# EAGLE library part 565RU7 (library _mtvl_ic.soviet_check_me)
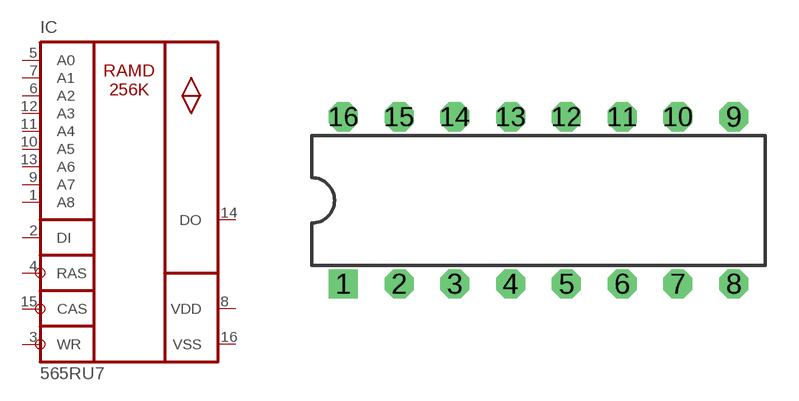
[diagram p0: symbol with the pads of 238.16.1; footprint 238.16.1]

Designator prefix IC

## 565RU7  [238.16.1]
1  A8
2  DI
3  WR
4  RAS
5  A0
6  A2
7  A1
8  VDD
9  A7
10  A5
11  A4
12  A3
13  A6
14  DO
15  CAS
16  VSS

## Footprint 238.16.1 (pad centres in mm)
Dual In Line Package
drill 0.8 square: 1 -8.75,-3.75
drill 0.8 octagon: 2 -6.25,-3.75; 3 -3.75,-3.75; 4 -1.25,-3.75; 5 1.25,-3.75; 6 3.75,-3.75; 7 6.25,-3.75; 8 8.75,-3.75; 9 8.75,3.75; 10 6.25,3.75; 11 3.75,3.75; 12 1.25,3.75; 13 -1.25,3.75; 14 -3.75,3.75; 15 -6.25,3.75; 16 -8.75,3.75